# Altium footprint library resistor-bourns.PCBLIB: 7 footprints
Each footprint in its own frame and in the unit in brackets; x right, y up, seen from the top. Pads: shape width x height; smd on the part's side, far side on the other; paste and mask are expansions set on the pad; w line width, h text height; cw(c..) or ccw(c..) is an arc to the next point about the centre after c.
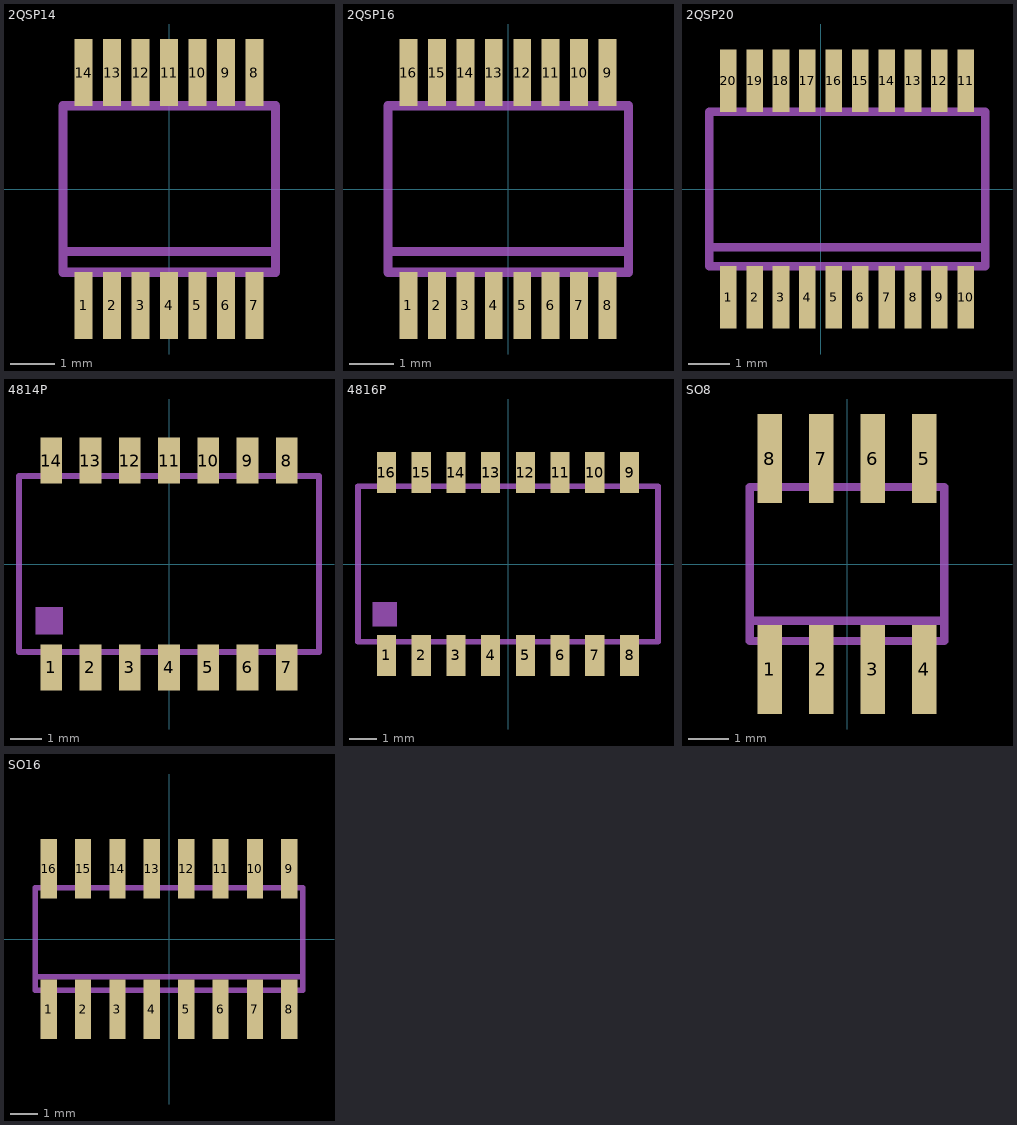
[diagram p0: the footprints below, top view; thin cyan lines are the x and y axes]

## 2QSP14 [mm]
pads (14):
  rect 0.4x1.5 smd: 1(-1.905,-2.6) 2(-1.27,-2.6) 3(-0.635,-2.6) 4(0,-2.6) 5(0.635,-2.6) 6(1.27,-2.6) 7(1.905,-2.6) 8(1.905,2.6) 9(1.27,2.6) 10(0.635,2.6) 11(0,2.6) 12(-0.635,2.6) 13(-1.27,2.6) 14(-1.905,2.6)
Mechanical 2:
  lines w0.203: -2.365,-1.86 -2.365,1.86 ; -2.25,-1.4 2.3,-1.4 ; 2.375,-1.86 2.375,1.86
Mechanical 18:
  rectangle: -2.055,-3.1 -1.755,-1.9
  rectangle: -1.42,-3.1 -1.12,-1.9
  rectangle: -0.785,-3.1 -0.485,-1.9
  rectangle: -0.15,-3.1 0.15,-1.9
  rectangle: 0.485,-3.1 0.785,-1.9
  rectangle: 1.12,-3.1 1.42,-1.9
  rectangle: 1.755,-3.1 2.055,-1.9
  rectangle: 1.755,1.9 2.055,3.1
  rectangle: 1.12,1.9 1.42,3.1
  rectangle: 0.485,1.9 0.785,3.1
  rectangle: -0.15,1.9 0.15,3.1
  rectangle: -0.785,1.9 -0.485,3.1
  rectangle: -1.42,1.9 -1.12,3.1
  rectangle: -2.055,1.9 -1.755,3.1
  lines w0.203: -2.365,-1.86 2.375,-1.86 ; -2.365,1.86 2.375,1.86

## 2QSP16 [mm]
pads (16):
  rect 0.4x1.5 smd: 1(-2.223,-2.6) 2(-1.588,-2.6) 3(-0.953,-2.6) 4(-0.318,-2.6) 5(0.318,-2.6) 6(0.953,-2.6) 7(1.588,-2.6) 8(2.223,-2.6) 9(2.223,2.6) 10(1.588,2.6) 11(0.953,2.6) 12(0.318,2.6) 13(-0.318,2.6) 14(-0.953,2.6) 15(-1.588,2.6) 16(-2.223,2.6)
Mechanical 2:
  lines w0.203: -2.683,-1.86 -2.683,1.86 ; -2.568,-1.4 2.618,-1.4 ; 2.693,-1.86 2.693,1.86
Mechanical 18:
  rectangle: -2.373,-3.1 -2.072,-1.9
  rectangle: -1.738,-3.1 -1.437,-1.9
  rectangle: -1.103,-3.1 -0.802,-1.9
  rectangle: -0.468,-3.1 -0.167,-1.9
  rectangle: 0.167,-3.1 0.468,-1.9
  rectangle: 0.802,-3.1 1.103,-1.9
  rectangle: 1.437,-3.1 1.738,-1.9
  rectangle: 2.072,-3.1 2.373,-1.9
  rectangle: 2.072,1.9 2.373,3.1
  rectangle: 1.437,1.9 1.738,3.1
  rectangle: 0.802,1.9 1.103,3.1
  rectangle: 0.167,1.9 0.468,3.1
  rectangle: -0.468,1.9 -0.167,3.1
  rectangle: -1.103,1.9 -0.802,3.1
  rectangle: -1.738,1.9 -1.437,3.1
  rectangle: -2.373,1.9 -2.072,3.1
  lines w0.203: -2.683,-1.86 2.693,-1.86 ; -2.683,1.86 2.693,1.86

## 2QSP20 [mm]
pads (20):
  rect 0.4x1.5 smd: 1(-2.223,-2.6) 2(-1.588,-2.6) 3(-0.953,-2.6) 4(-0.318,-2.6) 5(0.318,-2.6) 6(0.953,-2.6) 7(1.588,-2.6) 8(2.223,-2.6) 9(2.858,-2.6) 10(3.493,-2.6) 11(3.493,2.6) 12(2.858,2.6) 13(2.223,2.6) 14(1.588,2.6) 15(0.953,2.6) 16(0.318,2.6) 17(-0.318,2.6) 18(-0.953,2.6) 19(-1.588,2.6) 20(-2.223,2.6)
Mechanical 2:
  lines w0.203: -2.683,-1.86 -2.683,1.86 ; -2.568,-1.4 3.888,-1.4 ; 3.963,-1.86 3.963,1.86
Mechanical 18:
  rectangle: -2.373,-3.1 -2.072,-1.9
  rectangle: -1.738,-3.1 -1.437,-1.9
  rectangle: -1.103,-3.1 -0.802,-1.9
  rectangle: -0.468,-3.1 -0.167,-1.9
  rectangle: 0.167,-3.1 0.468,-1.9
  rectangle: 0.802,-3.1 1.103,-1.9
  rectangle: 1.437,-3.1 1.738,-1.9
  rectangle: 2.072,-3.1 2.373,-1.9
  rectangle: 2.707,-3.1 3.008,-1.9
  rectangle: 3.342,-3.1 3.643,-1.9
  rectangle: 3.342,1.9 3.643,3.1
  rectangle: 2.707,1.9 3.008,3.1
  rectangle: 2.072,1.9 2.373,3.1
  rectangle: 1.437,1.9 1.738,3.1
  rectangle: 0.802,1.9 1.103,3.1
  rectangle: 0.167,1.9 0.468,3.1
  rectangle: -0.468,1.9 -0.167,3.1
  rectangle: -1.103,1.9 -0.802,3.1
  rectangle: -1.738,1.9 -1.437,3.1
  rectangle: -2.373,1.9 -2.072,3.1
  lines w0.203: -2.683,-1.86 3.963,-1.86 ; -2.683,1.86 3.963,1.86

## 4814P [mm]
pads (14):
  rect 0.7x1.5 smd: 1(-3.81,-3.346) 2(-2.54,-3.346) 3(-1.27,-3.346) 4(0,-3.346) 5(1.27,-3.346) 6(2.54,-3.346) 7(3.81,-3.346) 8(3.81,3.346) 9(2.54,3.346) 10(1.27,3.346) 11(0,3.346) 12(-1.27,3.346) 13(-2.54,3.346) 14(-3.81,3.346)
Mechanical 2:
  rectangle: -4.318,-2.286 -3.429,-1.397
  lines w0.203: -4.852,-2.85 -4.852,2.85 ; 4.852,-2.85 4.852,2.85
Mechanical 18:
  rectangle: -4.035,-3.811 -3.585,-2.836
  rectangle: -2.765,-3.811 -2.315,-2.836
  rectangle: -1.495,-3.811 -1.045,-2.836
  rectangle: -0.225,-3.811 0.225,-2.836
  rectangle: 1.045,-3.811 1.495,-2.836
  rectangle: 2.315,-3.811 2.765,-2.836
  rectangle: 3.585,-3.811 4.035,-2.836
  rectangle: 3.585,2.836 4.035,3.811
  rectangle: 2.315,2.836 2.765,3.811
  rectangle: 1.045,2.836 1.495,3.811
  rectangle: -0.225,2.836 0.225,3.811
  rectangle: -1.495,2.836 -1.045,3.811
  rectangle: -2.765,2.836 -2.315,3.811
  rectangle: -4.035,2.836 -3.585,3.811
  lines w0.203: -4.852,-2.85 4.852,-2.85 ; -4.852,2.85 4.852,2.85

## 4816P [mm]
pads (16):
  rect 0.7x1.5 smd: 1(-4.445,-3.346) 2(-3.175,-3.346) 3(-1.905,-3.346) 4(-0.635,-3.346) 5(0.635,-3.346) 6(1.905,-3.346) 7(3.175,-3.346) 8(4.445,-3.346) 9(4.445,3.346) 10(3.175,3.346) 11(1.905,3.346) 12(0.635,3.346) 13(-0.635,3.346) 14(-1.905,3.346) 15(-3.175,3.346) 16(-4.445,3.346)
Mechanical 2:
  rectangle: -4.953,-2.286 -4.064,-1.397
  lines w0.203: -5.487,-2.85 -5.487,2.85 ; 5.487,-2.85 5.487,2.85
Mechanical 18:
  rectangle: -4.67,-3.811 -4.22,-2.836
  rectangle: -3.4,-3.811 -2.95,-2.836
  rectangle: -2.13,-3.811 -1.68,-2.836
  rectangle: -0.86,-3.811 -0.41,-2.836
  rectangle: 0.41,-3.811 0.86,-2.836
  rectangle: 1.68,-3.811 2.13,-2.836
  rectangle: 2.95,-3.811 3.4,-2.836
  rectangle: 4.22,-3.811 4.67,-2.836
  rectangle: 4.22,2.836 4.67,3.811
  rectangle: 2.95,2.836 3.4,3.811
  rectangle: 1.68,2.836 2.13,3.811
  rectangle: 0.41,2.836 0.86,3.811
  rectangle: -0.86,2.836 -0.41,3.811
  rectangle: -2.13,2.836 -1.68,3.811
  rectangle: -3.4,2.836 -2.95,3.811
  rectangle: -4.67,2.836 -4.22,3.811
  lines w0.203: -5.487,-2.85 5.487,-2.85 ; -5.487,2.85 5.487,2.85

## SO8 [mm]
pads (8):
  rect 0.6x2.2 smd: 1(-1.905,-2.6) 2(-0.635,-2.6) 3(0.635,-2.6) 4(1.905,-2.6) 5(1.905,2.6) 6(0.635,2.6) 7(-0.635,2.6) 8(-1.905,2.6)
Mechanical 2:
  lines w0.203: -2.4,-1.9 -2.4,-1.4 ; -2.4,1.9 -2.4,-1.4 ; 2.4,-1.9 2.4,-1.4 ; 2.4,1.9 2.4,-1.4 ; -2.4,-1.4 2.4,-1.4
Mechanical 18:
  rectangle: -2.15,-3.1 -1.66,-2
  rectangle: -0.88,-3.1 -0.39,-2
  rectangle: 0.39,-3.1 0.88,-2
  rectangle: 1.66,-3.1 2.15,-2
  rectangle: 1.66,2 2.15,3.1
  rectangle: 0.39,2 0.88,3.1
  rectangle: -0.88,2 -0.39,3.1
  rectangle: -2.15,2 -1.66,3.1
  lines w0.203: -2.4,-1.9 2.4,-1.9 ; -2.4,1.9 2.4,1.9

## SO16 [mm]
pads (16):
  rect 0.6x2.2 smd: 1(-4.445,-2.6) 2(-3.175,-2.6) 3(-1.905,-2.6) 4(-0.635,-2.6) 5(0.635,-2.6) 6(1.905,-2.6) 7(3.175,-2.6) 8(4.445,-2.6) 9(4.445,2.6) 10(3.175,2.6) 11(1.905,2.6) 12(0.635,2.6) 13(-0.635,2.6) 14(-1.905,2.6) 15(-3.175,2.6) 16(-4.445,2.6)
Mechanical 2:
  lines w0.203: -4.94,-1.9 -4.94,-1.4 ; -4.94,1.9 -4.94,-1.4 ; 4.94,-1.9 4.94,-1.4 ; 4.94,1.9 4.94,-1.4 ; -4.94,-1.4 4.94,-1.4
Mechanical 18:
  rectangle: -4.69,-3.1 -4.2,-2
  rectangle: -3.42,-3.1 -2.93,-2
  rectangle: -2.15,-3.1 -1.66,-2
  rectangle: -0.88,-3.1 -0.39,-2
  rectangle: 1.66,2 2.15,3.1
  rectangle: 0.39,2 0.88,3.1
  rectangle: -0.88,2 -0.39,3.1
  rectangle: -2.15,2 -1.66,3.1
  rectangle: 0.39,-3.1 0.88,-2
  rectangle: 1.66,-3.1 2.15,-2
  rectangle: 2.93,-3.1 3.42,-2
  rectangle: 4.2,-3.1 4.69,-2
  rectangle: 4.2,2 4.69,3.1
  rectangle: 2.93,2 3.42,3.1
  rectangle: -3.42,2 -2.93,3.1
  rectangle: -4.69,2 -4.2,3.1
  lines w0.203: -4.94,-1.9 4.94,-1.9 ; -4.94,1.9 4.94,1.9